# Altium schematic symbol library ECWFE2J104K.SchLib: 1 symbol
Pins are listed as number, name and electrical type; pins without a type are passive.

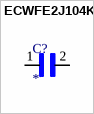
[diagram p0: symbol ECWFE2J104K]

## ECWFE2J104K
designator C?
MP: ECWFE2J104K; Value: *; Package: None; Price: None; Availability: Unavailable
footprint CAPRR1500W60L1750T500H1050
pins: 1, 2